# Altium footprint library LED3216.PcbLib: 19 footprints (part 2 of 2)
Each footprint in its own frame and in the unit in brackets; x right, y up, seen from the top. Pads: shape width x height; smd on the part's side, far side on the other; paste and mask are expansions set on the pad; w line width, h text height; cw(c..) or ccw(c..) is an arc to the next point about the centre after c.
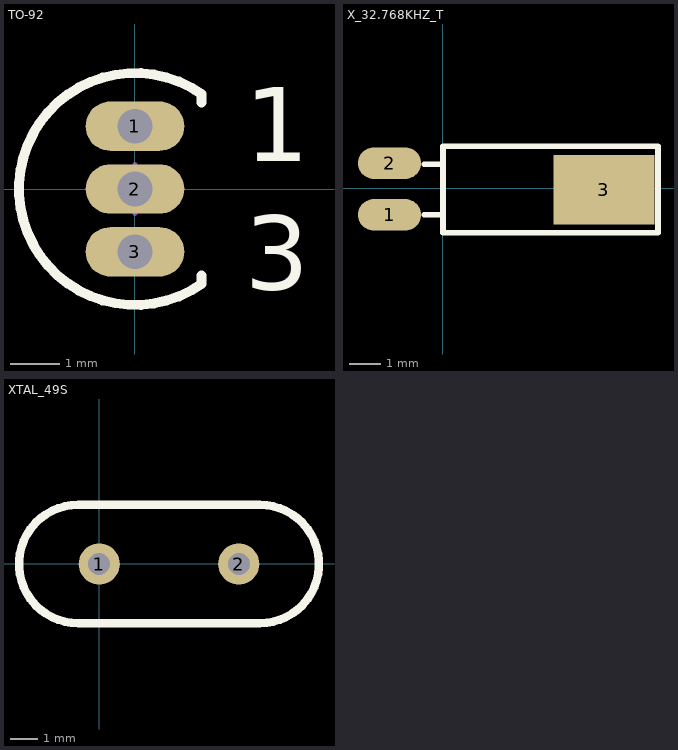
[diagram p1: the footprints below, top view; thin cyan lines are the x and y axes]

## TO-92 [mm] "TO, Flat Index; 3 In-Line, Axial Leads; Body Dia. 4.6mm; Leads 0.41 x 0.39 mm (max)"
height 4.7
pads (3):
  oval 2x1 hole 0.7: 1(0,1.27) 2(0,0) 3(0,-1.27)
Top Overlay:
  lines w0.2: 1.35,-1.75 1.35,-1.92 cw(c0,0) 1.35,1.92 1.35,1.75
  text "3" at 2.224,-2.035 h1.5
  text "1" at 2.224,0.56 h1.5
Mechanical 15:
  lines w0.1: -0.5,0 0.5,0 ; 0,-0.5 0,0.5

## X_32.768KHZ_T [mm]
pads (3):
  oval 2x1 smd: 1(-1.69,-0.84) 2(-1.69,0.8)
  rect 3.2x2.2 smd: 3(5.1,-0.05)
Top Overlay:
  lines w0.178: -0.59,-0.84 0,-0.84 ; -0.59,0.76 0,0.76 ; 0,-1.4 6.81,-1.4 6.81,1.33 0,1.33 0,-1.4

## XTAL_49S [mm]
height 4.1
pads (2):
  round 1.5 hole 0.8: 1(0.004,-0.003) 2(5.084,-0.003)
Top Overlay:
  lines w0.305: -0.758,-2.162 cw(c-0.758,-0.003) -0.758,2.156 5.846,2.156 cw(c5.846,-0.003) 5.846,-2.162 -0.758,-2.162